# Altium footprint library DIP-SW.PcbLib: 1 footprints
Each footprint in its own frame and in the unit in brackets; x right, y up, seen from the top. Pads: shape width x height; smd on the part's side, far side on the other; paste and mask are expansions set on the pad; w line width, h text height; cw(c..) or ccw(c..) is an arc to the next point about the centre after c.
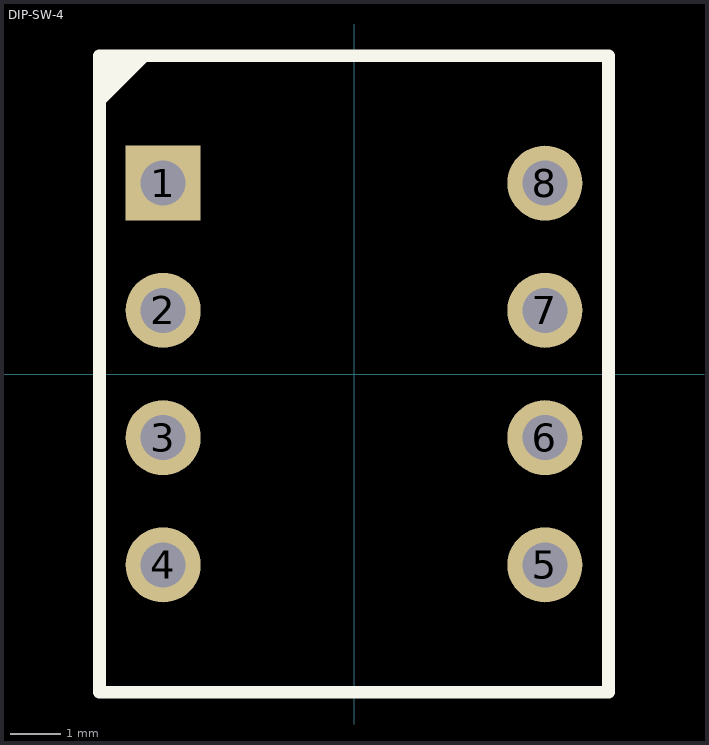
[diagram p0: the footprint, top view; thin cyan lines are the x and y axes]

## DIP-SW-4 [mm] "SWD1-4; 8 Leads; 4-switches"
height 6
pads (8):
  rect 1.5x1.5 hole 0.9: 1(-3.81,3.81)
  round 1.5 hole 0.9: 2(-3.81,1.27) 3(-3.81,-1.27) 4(-3.81,-3.81) 5(3.81,-3.81) 6(3.81,-1.27) 7(3.81,1.27) 8(3.81,3.81)
Top Overlay:
  lines w0.254: -5.08,5.461 -4.191,6.35 ; -4.699,6.35 -5.08,5.969 -5.08,5.715 -4.445,6.35 ; -5.08,-6.35 5.08,-6.35 5.08,6.35 -5.08,6.35 -5.08,-6.35
3D body "User Library-DIP SWITCH 4 POS CTS 206.step": height 8.14, standoff -3.5, extent -4.89,-6.17 4.89,6.17